# EAGLE library part MCP41XXX (library SparkFun-IC-Special-Function)
Digital Potentiometer - 10K SPI controlled single digital potentiometer by Microchip Datasheet <http://cdn.sparkfun.com/datasheets/Components/General%20IC/22060b.pdf> SparkFun Products Storefront component: Digital Potentiometer - 10K <https://www.sparkfun.com/products/10613> (COM-10613)
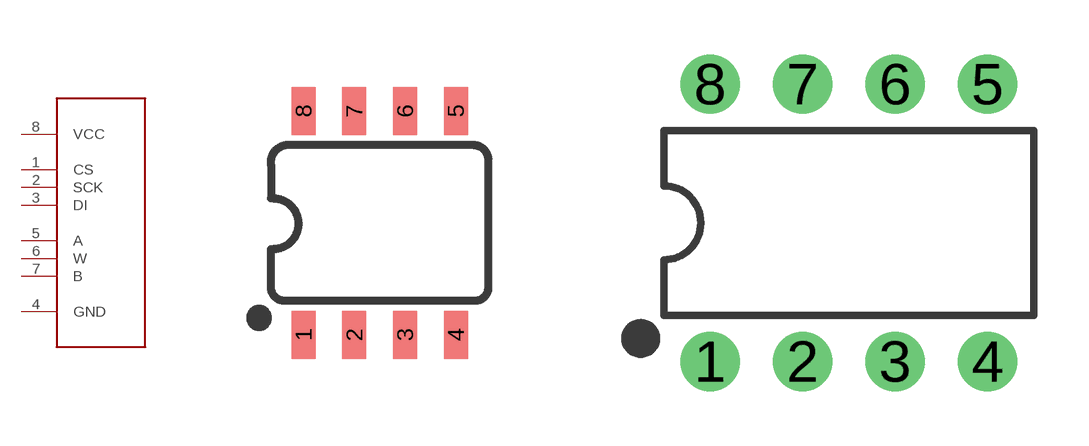
[diagram p11: symbol with the pads of SO08; footprints SO08, DIP08]

Designator prefix U

## MCP41XXX (PROD_ID: NA-XXXXX; VALUE: MCP41XXX)  [SO08]
1  CS
2  SCK
3  DI
4  GND
5  A
6  W
7  B
8  VCC

## MCP41XXXDIL (PROD_ID: RES-13155; VALUE: MCP41XXX)  [DIP08]
Pads as for SO08

## Footprint SO08 (pad centres in mm)
SOIC, 0.15 inch width
smd 0.6 x 1.2: 1 -1.905,-2.8; 2 -0.635,-2.8; 3 0.635,-2.8; 4 1.905,-2.8; 5 1.905,2.8; 6 0.635,2.8; 7 -0.635,2.8; 8 -1.905,2.8

## Footprint DIP08 (pad centres in mm)
Dual In Line Package
drill 0.813 pad 1.626: 1 -3.81,-3.81; 2 -1.27,-3.81; 3 1.27,-3.81; 4 3.81,-3.81; 5 3.81,3.81; 6 1.27,3.81; 7 -1.27,3.81; 8 -3.81,3.81